# Altium schematic symbol library TPSM5601R5RDAR.SchLib: 1 symbol
Pins are listed as number, name and electrical type; pins without a type are passive.

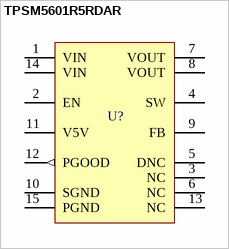
[diagram p0: symbol TPSM5601R5RDAR]

## TPSM5601R5RDAR
designator U?
Swiching regulator
pins: 1 VIN (power), 2 EN, 3 NC, 4 SW, 5 DNC, 6 NC, 7 VOUT (power), 8 VOUT (power), 9 FB, 10 SGND (power), 11 V5V, 12 PGOOD (out), 13 NC, 14 VIN (power), 15 PGND (power)